# Altium integrated library DIODES.IntLib: 4 symbols
Pins are listed as number, name and electrical type; pins without a type are passive.

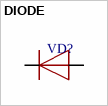
[diagram p0: symbol DIODE]

## DIODE
designator VD?
footprint DO-214AA
footprint DO-41
footprint DO-35
footprint DO-214AC, SMA
footprint SOD128
footprint DO-214AB
footprint SOD-80
footprint SOD-123
footprint DIODE_R6
footprint DO-201
footprint DO-017AA
footprint DO-221AC, SMA
footprint DO-214BA
pins: 1 C, 2 A


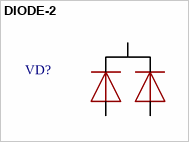
[diagram p1: symbol DIODE-2]

## DIODE-2
designator VD?
footprint TO-220-3
footprint TO-220-3
pins: 1 A, 2 C, 3 A


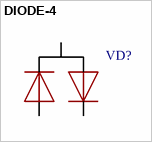
[diagram p2: symbol DIODE-4]

## DIODE-4
designator VD?
footprint SOT23-3
pins: 1 A, 2 C, 3 x


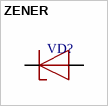
[diagram p3: symbol ZENER]

## ZENER
designator VD?
footprint DO-214AA
footprint DO-41
footprint DO-35
footprint SOD128
footprint SOD-80
footprint DO-221AC, SMA
footprint SOD-123
footprint DO-017AA
footprint DO-201
footprint DIODE_R6
footprint DO-214BA
footprint DO-214AB
footprint DO-214BA
pins: 1 C, 2 A